# EAGLE library part FT230XQ (library LoganSmith-Digital_IC)
USB to Basic UART IC Datasheet <http://www.ftdichip.com/Support/Documents/DataSheets/ICs/DS_FT230X.pdf>
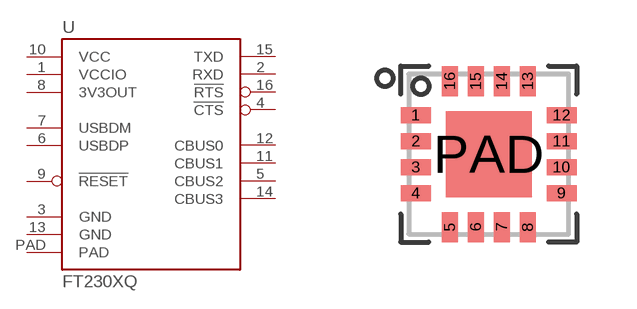
[diagram p1: symbol with the pads of QFN-16; footprint QFN-16]

Designator prefix U

## FT230XQQ (DESC: IC USB serial basic UART 8mA 3.3V-5V; DIGIKEY_OC: 768-1130-1-ND; HEIGHT: 0.75mm; MFR: FTDI; MPN: FT230XQ-R; TEMP: -40C to 85C; VALUE: FT230X)  [QFN-16]
1  VCCIO  pwr
2  RXD  in
3  GND  sup
4  !CTS  out
5  CBUS2
6  USBDP
7  USBDM
8  3V3OUT  pwr
9  !RESET  in
10  VCC  pwr
11  CBUS1
12  CBUS0
13  GND  sup
14  CBUS3
15  TXD  out
16  !RTS  out
PAD  PAD  sup

## Footprint QFN-16 (pad centres in mm)
4x4 QFN-16 Footprint <http://www.skyworksinc.com/uploads/documents/200123k.pdf> Package <http://www.ftdichip.com/Support/Documents/DataSheets/ICs/DS_FT230X.pdf>
smd 0.75 x 0.4: 1 -1.825,0.975; 2 -1.825,0.325; 3 -1.825,-0.325; 4 -1.825,-0.975; 9 1.825,-0.975; 10 1.825,-0.325; 11 1.825,0.325; 12 1.825,0.975
smd 0.4 x 0.75: 5 -0.975,-1.825; 6 -0.325,-1.825; 7 0.325,-1.825; 8 0.975,-1.825; 13 0.975,1.825; 14 0.325,1.825; 15 -0.325,1.825; 16 -0.975,1.825
smd 2.15 x 2.15: PAD 0,0